# Altium integrated library 1586041-6.IntLib: 1 symbol
Pins are listed as number, name and electrical type; pins without a type are passive.

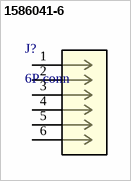
[diagram p0: symbol 1586041-6]

## 1586041-6
designator J?, comment 6P conn
Headers & Wire Housings RA HDR W/O PEGS 6P; Manufacturer_Part_Number: 1586041-6; Vendor: TE Connectivity; Built_By: EMA_UL_Team; C: Copyright (C) 2015 Accelerated Designs. All rights reserved; Copyright: Copyright (C) 2016 Accelerated Designs. All rights reserved; RefDes: RefDes; Type: DEV; Value: Value
footprint CONN_1586041-6_T
pins: 1, 2, 3, 4, 5, 6